# Altium schematic symbol library MergenElektronik_Resistors_ShuntResistors.SchLib: 1 symbol
Pins are listed as number, name and electrical type; pins without a type are passive.

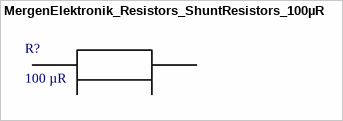
[diagram p0: symbol MergenElektronik_Resistors_ShuntResistors_100µR]

## MergenElektronik_Resistors_ShuntResistors_100µR
designator R?, comment 100 µR
Mergen Elektronik - Resistors - Shunt Resistors - 100 µR - 3W; Manufacturer: Vishay Dale; Manufacturer Number: WSMS5515L1000JK; Digi-Key Number: WSMSA-.0001-ND; Model: Shunt Resistor; Mounting Type: Through Hole & Surface Mount
pins: 1 01, 2